# EAGLE library part I2C_LEVEL_CONVERTER_AKIZUKI (library I2CLEVEL_CONVERTER_AKIZUKI)
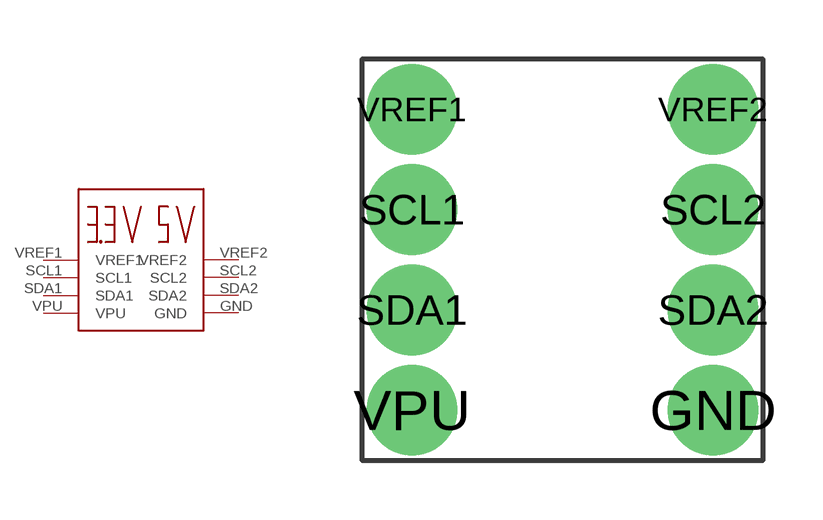
[diagram p0: symbol with the pads of I2C_LEVEL_CONVERTER_AKIZUKI; footprint I2C_LEVEL_CONVERTER_AKIZUKI]

Designator prefix I2C_LEVEL

## I2C_LEVEL_CONVERTER_AKIZUKI  [I2C_LEVEL_CONVERTER_AKIZUKI]
GND  GND
SCL1  SCL1
SCL2  SCL2
SDA1  SDA1
SDA2  SDA2
VPU  VPU
VREF1  VREF1
VREF2  VREF2

## Footprint I2C_LEVEL_CONVERTER_AKIZUKI (pad centres in mm)
drill 1 pad 2.3: GND 7.62,0; SCL1 0,5.08; SCL2 7.62,5.08; SDA1 0,2.54; SDA2 7.62,2.54; VPU 0,0; VREF1 0,7.62; VREF2 7.62,7.62